# Altium schematic symbol library STC89C52.SchLib: 17 symbols
Pins are listed as number, name and electrical type; pins without a type are passive.

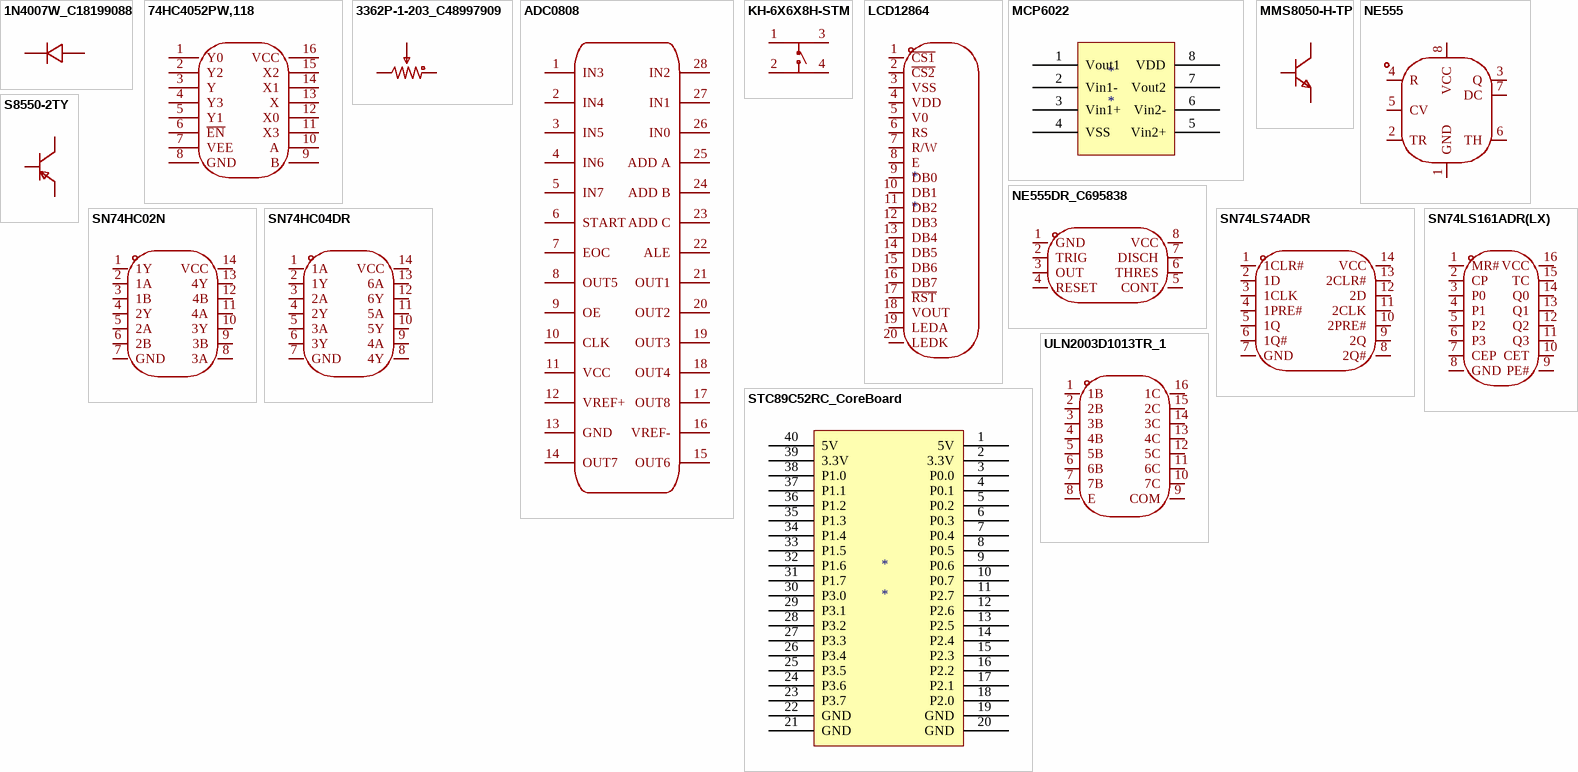
[diagram p0: symbols 1N4007W_C18199088 to ULN2003D1013TR_1]

## 1N4007W_C18199088
designator D??  (value not drawn)
Symbol: 1N4007W_C18199088
pins: 1 K, 2 A

## 74HC4052PW,118
designator U??  (value not drawn)
Symbol: 74HC4052PW,118
pins: 1 Y0, 2 Y2, 3 Y, 4 Y3, 5 Y1, 6 ~{EN}, 7 VEE, 8 GND, 9 B, 10 A, 11 X3, 12 X0, 13 X, 14 X1, 15 X2, 16 VCC

## 3362P-1-203_C48997909
designator R??  (value not drawn)
Symbol: 3362P-1-203_C48997909
pins: 1, 2, 3

## ADC0808
designator U??, comment DS1009-28AT1WX-0A2  (value not drawn)
Symbol: DS1009-28AT1WX-0A2
pins: 1 IN3, 2 IN4, 3 IN5, 4 IN6, 5 IN7, 6 START, 7 EOC, 8 OUT5, 9 OE, 10 CLK, 11 VCC, 12 VREF+, 13 GND, 14 OUT7, 15 OUT6, 16 VREF-, 17 OUT8, 18 OUT4, 19 OUT3, 20 OUT2, 21 OUT1, 22 ALE, 23 ADD C, 24 ADD B, 25 ADD A, 26 IN0, 27 IN1, 28 IN2

## KH-6X6X8H-STM
designator SW??  (value not drawn)
Symbol: KH-6X6X8H-STM
pins: 1 A, 2 C, 3 B, 4 D

## LCD12864
designator *
pins: 1 ~{CS1}, 2 ~{CS2}, 3 VSS, 4 VDD, 5 V0, 6 RS, 7 R/W, 8 E, 9 DB0, 10 DB1, 11 DB2, 12 DB3, 13 DB4, 14 DB5, 15 DB6, 16 DB7, 17 ~{RST}, 18 VOUT, 19 LEDA, 20 LEDK

## MCP6022
designator *
pins: 1 Vout1, 2 Vin1-, 3 Vin1+, 4 VSS, 5 Vin2+, 6 Vin2-, 7 Vout2, 8 VDD

## MMS8050-H-TP
designator Q??  (value not drawn)
Symbol: MMS8050-H-TP
pins: 1 B, 2 E, 3 C

## NE555
designator U??, comment NE555DR_C695838  (value not drawn)
Symbol: NE555DR_C695838
pins: 1 GND, 2 TR, 3 Q, 4 R, 5 CV, 6 TH, 7 DC, 8 VCC

## NE555DR_C695838
designator U??  (value not drawn)
Symbol: NE555DR_C695838
pins: 1 GND, 2 TRIG, 3 OUT, 4 RESET, 5 CONT, 6 THRES, 7 DISCH, 8 VCC

## S8550-2TY
designator Q??  (value not drawn)
Symbol: S8550-2TY
pins: 1 B, 2 E, 3 C

## SN74HC02N
designator U??  (value not drawn)
Symbol: SN74HC02N
pins: 1 1Y, 2 1A, 3 1B, 4 2Y, 5 2A, 6 2B, 7 GND, 8 3A, 9 3B, 10 3Y, 11 4A, 12 4B, 13 4Y, 14 VCC

## SN74HC04DR
designator U??  (value not drawn)
Symbol: SN74HC04DR
pins: 1 1A, 2 1Y, 3 2A, 4 2Y, 5 3A, 6 3Y, 7 GND, 8 4Y, 9 4A, 10 5Y, 11 5A, 12 6Y, 13 6A, 14 VCC

## SN74LS74ADR
designator U??  (value not drawn)
Symbol: SN74LS74ADR
pins: 1 1CLR#, 2 1D, 3 1CLK, 4 1PRE#, 5 1Q, 6 1Q#, 7 GND, 8 2Q#, 9 2Q, 10 2PRE#, 11 2CLK, 12 2D, 13 2CLR#, 14 VCC

## SN74LS161ADR(LX)
designator U??  (value not drawn)
Symbol: SN74LS161ADR(LX)
pins: 1 MR#, 2 CP, 3 P0, 4 P1, 5 P2, 6 P3, 7 CEP, 8 GND, 9 PE#, 10 CET, 11 Q3, 12 Q2, 13 Q1, 14 Q0, 15 TC, 16 VCC

## STC89C52RC_CoreBoard
designator *
pins: 1 5V, 2 3.3V, 3 P0.0, 4 P0.1, 5 P0.2, 6 P0.3, 7 P0.4, 8 P0.5, 9 P0.6, 10 P0.7, 11 P2.7, 12 P2.6, 13 P2.5, 14 P2.4, 15 P2.3, 16 P2.2, 17 P2.1, 18 P2.0, 19 GND, 20 GND, 21 GND, 22 GND, 23 P3.7, 24 P3.6, 25 P3.5, 26 P3.4, 27 P3.3, 28 P3.2, 29 P3.1, 30 P3.0, 31 P1.7, 32 P1.6, 33 P1.5, 34 P1.4, 35 P1.3, 36 P1.2, 37 P1.1, 38 P1.0, 39 3.3V, 40 5V

## ULN2003D1013TR_1
designator U??, comment ULN2003D1013TR  (value not drawn)
Symbol: ULN2003D1013TR
pins: 1 1B, 2 2B, 3 3B, 4 4B, 5 5B, 6 6B, 7 7B, 8 E, 9 COM, 10 7C, 11 6C, 12 5C, 13 4C, 14 3C, 15 2C, 16 1C